# Altium schematic symbol library Inductors.SchLib: 5 symbols
Pins are listed as number, name and electrical type; pins without a type are passive.

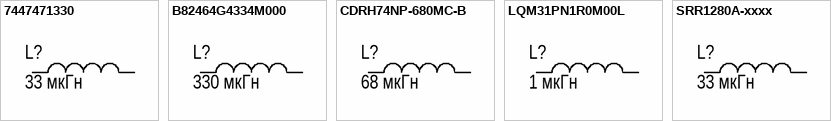
[diagram p0: symbols 7447471330 to SRR1280A-xxxx]

## 7447471330
designator L?, comment 33 мкГн
33 µH Shielded Wirewound Inductor 3.6 A 61mOhm Max Radial, Vertical Cylinder; Manufacture: Würth Elektronik; Model: 7447471330; Name: Индуктивность; Amps: 3.6 A; Case: Radial, Vertical Cylinder; HelpURL: https://www.digikey.com/en/products/detail/w%C3%BCrth-elektronik/7447471330/2794435?s=N4IgTCBcDaIOwBYGLgRgMzoAwgLoF8g; Value: 33 мкГн
footprint Inductor 7447471330
pins: 1, 2

## B82464G4334M000
designator L?, comment 330 мкГн
330 µH Shielded Wirewound Inductor 590 mA 650mOhm Max Nonstandard; Manufacture: EPCOS - TDK Electronics; Model: B82464G4334M000; Name: Индуктивность; Amps: 3.6 A; Case: 10x10x4.8; HelpURL: https://www.digikey.com/en/products/detail/epcos-tdk-electronics/B82464G4334M000/697479?s=N4IgTCBcDaIEIA4wBYBsyDiyDM3kFkQBdAXyA; Value: 330 мкГн
footprint Inductor B82464G4334M
pins: 1, 2

## CDRH74NP-680MC-B
designator L?, comment 68 мкГн
68 µH Shielded Inductor 690 mA 380mOhm Max Nonstandard; Manufacture: Sumida America Components Inc.; Model: CDRH74NP-680MC-B; Name: Индуктивность; Amps: 690 мA; Case: 7.3x7.3x4.5; HelpURL: https://www.digikey.com/en/products/detail/sumida-america-inc/CDRH74NP-680MC-B/700606?s=N4IgTCBcDaIMYBMBOALA7AFgHYAcC0AbABwAMAtnCALoC%2BQA; Value: 68 мкГн
footprint 7.3x7.3x4.5
pins: 1, 2

## LQM31PN1R0M00L
designator L?, comment 1 мкГн
1 µH Shielded Multilayer Inductor 1.2 A 150mOhm Max 1206 (3216 Metric); Manufacture: Murata Electronics; Model: LQM31PN1R0M00L; Name: Индуктивность; Amps: 1.2 A; Case: 1206 (3216 Metric); HelpURL: https://www.digikey.com/en/products/detail/murata-electronics/LQM31PN1R0M00L/1016198?s=N4IgTCBcDaIDYEcC2BmAjABwHZoE4AYl984QBdAXyA; Value: 1 мкГн
footprint L1206
pins: 1, 2

## SRR1280A-xxxx
designator L?, comment 33 мкГн
33 µH Shielded - Inductor 3.5 A 57mOhm Max Nonstandard; Manufacture: Bourns Inc.; Model: SRR1280A-330M; Name: Индуктивность; Amps: 3.5 A; Case: Nonstandard 1280; HelpURL: https://www.digikey.com/en/products/detail/bourns-inc/SRR1280A-330M/4340244?s=N4IgTCBcDaIM4CcEEYwA4AMBDAtAZjwwFsQBdAXyA; Value: 33 мкГн
footprint SRR1280A
pins: 1, 2